# EAGLE library part DS90C241 (library Traficon)
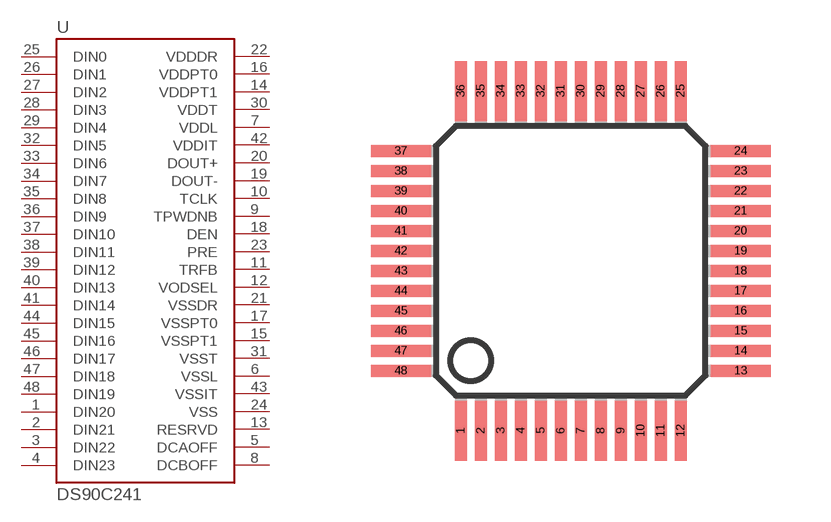
[diagram p168: symbol with the pads of TQFP48; footprint TQFP48]

Designator prefix U

## DS90C241  [TQFP48]
1  DIN20  in
2  DIN21  in
3  DIN22  in
4  DIN23  in
5  DCAOFF  pas
6  VSSL  sup
7  VDDL  sup
8  DCBOFF  pas
9  TPWDNB  in
10  TCLK  in
11  TRFB  in
12  VODSEL  in
13  RESRVD  pas
14  VDDPT1  sup
15  VSSPT1  sup
16  VDDPT0  sup
17  VSSPT0  sup
18  DEN  in
19  DOUT-  out
20  DOUT+  out
21  VSSDR  sup
22  VDDDR  sup
23  PRE  in
24  VSS  sup
25  DIN0  in
26  DIN1  in
27  DIN2  in
28  DIN3  in
29  DIN4  in
30  VDDT  sup
31  VSST  sup
32  DIN5  in
33  DIN6  in
34  DIN7  in
35  DIN8  in
36  DIN9  in
37  DIN10  in
38  DIN11  in
39  DIN12  in
40  DIN13  in
41  DIN14  in
42  VDDIT  sup
43  VSSIT  sup
44  DIN15  in
45  DIN16  in
46  DIN17  in
47  DIN18  in
48  DIN19  in

## Footprint TQFP48 (pad centres in mm)
Thin Quad Flat Pack
smd 0.3 x 1.5: 1 -2.75,-4.25; 2 -2.25,-4.25; 3 -1.75,-4.25; 4 -1.25,-4.25; 5 -0.75,-4.25; 6 -0.25,-4.25; 7 0.25,-4.25; 8 0.75,-4.25; 9 1.25,-4.25; 10 1.75,-4.25; 11 2.25,-4.25; 12 2.75,-4.25; 25 2.75,4.25; 26 2.25,4.25; 27 1.75,4.25; 28 1.25,4.25; 29 0.75,4.25; 30 0.25,4.25; 31 -0.25,4.25; 32 -0.75,4.25; 33 -1.25,4.25; 34 -1.75,4.25; 35 -2.25,4.25; 36 -2.75,4.25
smd 1.5 x 0.3: 13 4.25,-2.75; 14 4.25,-2.25; 15 4.25,-1.75; 16 4.25,-1.25; 17 4.25,-0.75; 18 4.25,-0.25; 19 4.25,0.25; 20 4.25,0.75; 21 4.25,1.25; 22 4.25,1.75; 23 4.25,2.25; 24 4.25,2.75; 37 -4.25,2.75; 38 -4.25,2.25; 39 -4.25,1.75; 40 -4.25,1.25; 41 -4.25,0.75; 42 -4.25,0.25; 43 -4.25,-0.25; 44 -4.25,-0.75; 45 -4.25,-1.25; 46 -4.25,-1.75; 47 -4.25,-2.25; 48 -4.25,-2.75